# Altium schematic symbol library THS4221DGK.SchLib: 1 symbol
Pins are listed as number, name and electrical type; pins without a type are passive.

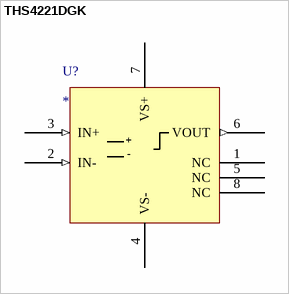
[diagram p0: symbol THS4221DGK]

## THS4221DGK
designator U?
pins: 1 NC, 2 IN- (in), 3 IN+ (in), 4 VS- (power), 5 NC, 6 VOUT (out), 7 VS+ (power), 8 NC
text: +; -